# EAGLE library part 74HC14 (library EGB240)
Hex schmitt trigger INVERTER
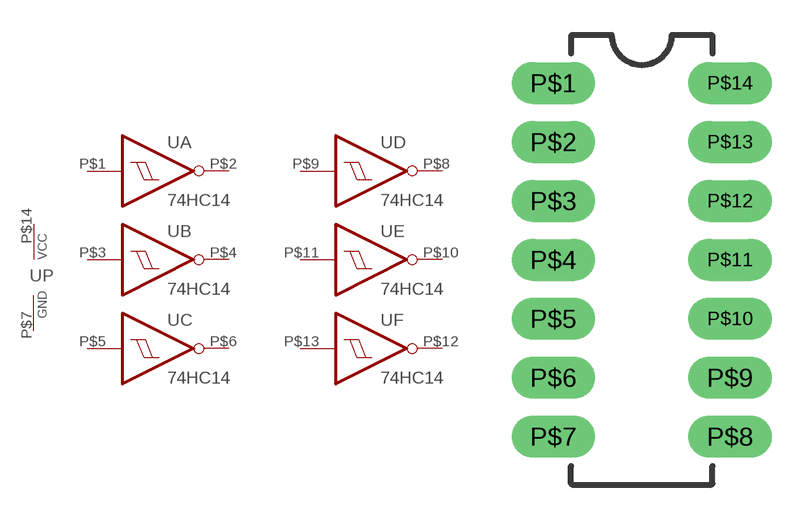
[diagram p0: symbol with the pads of DIP-14; footprint DIP-14]

Designator prefix U; gates A=7414 B=7414 C=7414 D=7414 E=7414 F=7414 P=PWRN

## 74HC14  [DIP-14]
P$1  A:I  in
P$2  A:O  out
P$3  B:I  in
P$4  B:O  out
P$5  C:I  in
P$6  C:O  out
P$7  P:GND  pwr
P$8  D:O  out
P$9  D:I  in
P$10  E:O  out
P$11  E:I  in
P$12  F:O  out
P$13  F:I  in
P$14  P:VCC  pwr

## Footprint DIP-14 (pad centres in mm)
DIP-14
drill 0.8 pad 1.8 long: P$1 -3.81,7.62; P$2 -3.81,5.08; P$3 -3.81,2.54; P$4 -3.81,0; P$5 -3.81,-2.54; P$6 -3.81,-5.08; P$7 -3.81,-7.62; P$8 3.81,-7.62; P$9 3.81,-5.08; P$10 3.81,-2.54; P$11 3.81,0; P$13 3.81,5.08; P$14 3.81,7.62
drill 0.7 pad 1.8 long: P$12 3.81,2.54